# Altium schematic symbol library WE-HCI.SchLib: 126 symbols (part 3 of 3)
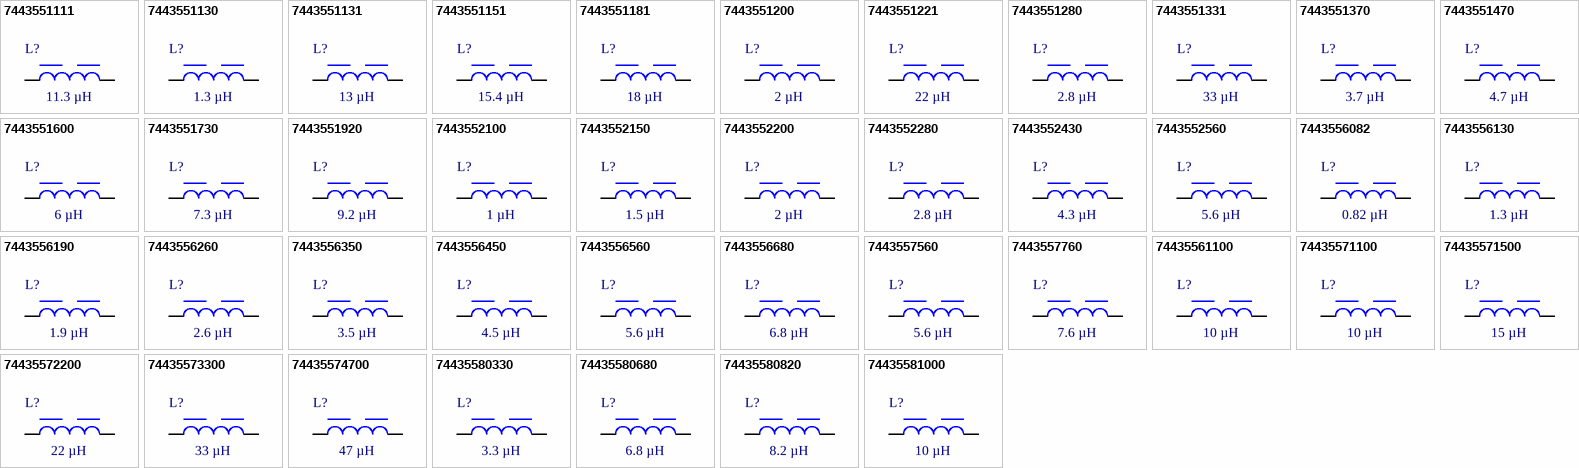
[diagram p5: symbols 7443551111 to 74435581000]

## 74435571100
designator L?, comment 10 µH
WE-HCI SMT Flat Wire High Current Inductor, size 1890, 10 µH, 16.4 A, 6.9 mΩ; Manufacturer Part Number: 74435571100; Manufacturer: Wurth Elektronik; Case/Size Code: 1890; DC Resistance: 6.9 mΩ; Material: MnZn; Performance Rated Current: 16.4 A; Saturation Current: 18.5 A; Self Resonant Frequency: 16 MHz; Category: Power Inductors; Match Code: WE-HCI; ComponentLink1Description: Website Link; ComponentLink1URL: https://www.we-online.com/redexpert/article/74435571100?ad; ComponentLink2Description: Datasheet Link; ComponentLink2URL: https://www.we-online.com/redexpert/spec/74435571100?ad; Mount: Surface Mount; Min Operating Temperature: -40 °C; Max Operating Temperature: 125 °C; Packaging: Tape and Reel; Length: 18.2 mm; Width: 18.2 mm; Height: 8.9 mm; Inductance: 10 µH
footprint WE-HCI_1890
simulation model 1890_74435571100_10u
pins: 1, 2

## 74435571500
designator L?, comment 15 µH
WE-HCI SMT Flat Wire High Current Inductor, size 1890, 15 µH, 14.1 A, 9 mΩ; Manufacturer Part Number: 74435571500; Manufacturer: Wurth Elektronik; Case/Size Code: 1890; DC Resistance: 9 mΩ; Material: MnZn; Performance Rated Current: 14.1 A; Saturation Current: 14 A; Self Resonant Frequency: 14 MHz; Category: Power Inductors; Match Code: WE-HCI; ComponentLink1Description: Website Link; ComponentLink1URL: https://www.we-online.com/redexpert/article/74435571500?ad; ComponentLink2Description: Datasheet Link; ComponentLink2URL: https://www.we-online.com/redexpert/spec/74435571500?ad; Mount: Surface Mount; Min Operating Temperature: -40 °C; Max Operating Temperature: 125 °C; Packaging: Tape and Reel; Length: 18.2 mm; Width: 18.2 mm; Height: 8.9 mm; Inductance: 15 µH
footprint WE-HCI_1890
simulation model 1890_74435571500_15u
pins: 1, 2

## 74435572200
designator L?, comment 22 µH
WE-HCI SMT Flat Wire High Current Inductor, size 1890, 22 µH, 10.9 A, 14.6 mΩ; Manufacturer Part Number: 74435572200; Manufacturer: Wurth Elektronik; Case/Size Code: 1890; DC Resistance: 14.6 mΩ; Material: MnZn; Performance Rated Current: 10.9 A; Saturation Current: 11 A; Self Resonant Frequency: 10.5 MHz; Category: Power Inductors; Match Code: WE-HCI; ComponentLink1Description: Website Link; ComponentLink1URL: https://www.we-online.com/redexpert/article/74435572200?ad; ComponentLink2Description: Datasheet Link; ComponentLink2URL: https://www.we-online.com/redexpert/spec/74435572200?ad; Mount: Surface Mount; Min Operating Temperature: -40 °C; Max Operating Temperature: 125 °C; Packaging: Tape and Reel; Length: 18.2 mm; Width: 18.2 mm; Height: 8.9 mm; Inductance: 22 µH
footprint WE-HCI_1890
simulation model 1890_74435572200_22u
pins: 1, 2

## 74435573300
designator L?, comment 33 µH
WE-HCI SMT Flat Wire High Current Inductor, size 1890, 33 µH, 8.7 A, 21.7 mΩ; Manufacturer Part Number: 74435573300; Manufacturer: Wurth Elektronik; Case/Size Code: 1890; DC Resistance: 21.7 mΩ; Material: MnZn; Performance Rated Current: 8.7 A; Saturation Current: 9 A; Self Resonant Frequency: 9.5 MHz; Category: Power Inductors; Match Code: WE-HCI; ComponentLink1Description: Website Link; ComponentLink1URL: https://www.we-online.com/redexpert/article/74435573300?ad; ComponentLink2Description: Datasheet Link; ComponentLink2URL: https://www.we-online.com/redexpert/spec/74435573300?ad; Mount: Surface Mount; Min Operating Temperature: -40 °C; Max Operating Temperature: 125 °C; Packaging: Tape and Reel; Length: 18.2 mm; Width: 18.2 mm; Height: 8.9 mm; Inductance: 33 µH
footprint WE-HCI_1890
simulation model 1890_74435573300_33u
pins: 1, 2

## 74435574700
designator L?, comment 47 µH
WE-HCI SMT Flat Wire High Current Inductor, size 1890, 47 µH, 6.4 A, 33.5 mΩ; Manufacturer Part Number: 74435574700; Manufacturer: Wurth Elektronik; Case/Size Code: 1890; DC Resistance: 33.5 mΩ; Material: MnZn; Performance Rated Current: 6.4 A; Saturation Current: 7 A; Self Resonant Frequency: 7.5 MHz; Category: Power Inductors; Match Code: WE-HCI; ComponentLink1Description: Website Link; ComponentLink1URL: https://www.we-online.com/redexpert/article/74435574700?ad; ComponentLink2Description: Datasheet Link; ComponentLink2URL: https://www.we-online.com/redexpert/spec/74435574700?ad; Mount: Surface Mount; Min Operating Temperature: -40 °C; Max Operating Temperature: 125 °C; Packaging: Tape and Reel; Length: 18.2 mm; Width: 18.2 mm; Height: 8.9 mm; Inductance: 47 µH
footprint WE-HCI_1890
simulation model 1890_74435574700_47u
pins: 1, 2

## 74435580330
designator L?, comment 3.3 µH
WE-HCI SMT Flat Wire High Current Inductor, size 2212, 3.3 µH, 33.2 A, 1.7 mΩ; Manufacturer Part Number: 74435580330; Manufacturer: Wurth Elektronik; Case/Size Code: 2212; DC Resistance: 1.7 mΩ; Material: MnZn; Performance Rated Current: 33.2 A; Saturation Current: 45 A; Self Resonant Frequency: 26.5 MHz; Category: Power Inductors; Match Code: WE-HCI; ComponentLink1Description: Website Link; ComponentLink1URL: https://www.we-online.com/redexpert/article/74435580330?ad; ComponentLink2Description: Datasheet Link; ComponentLink2URL: https://www.we-online.com/redexpert/spec/74435580330?ad; Mount: Surface Mount; Min Operating Temperature: -40 °C; Max Operating Temperature: 125 °C; Packaging: Tape and Reel; Length: 22 mm; Width: 22.5 mm; Height: 12 mm; Inductance: 3.3 µH
footprint WE-HCI_2212
simulation model 2212_74435580330_3.3u
pins: 1, 2

## 74435580680
designator L?, comment 6.8 µH
WE-HCI SMT Flat Wire High Current Inductor, size 2212, 6.8 µH, 30.5 A, 2.1 mΩ; Manufacturer Part Number: 74435580680; Manufacturer: Wurth Elektronik; Case/Size Code: 2212; DC Resistance: 2.1 mΩ; Material: MnZn; Performance Rated Current: 30.5 A; Saturation Current: 31 A; Self Resonant Frequency: 18 MHz; Category: Power Inductors; Match Code: WE-HCI; ComponentLink1Description: Website Link; ComponentLink1URL: https://www.we-online.com/redexpert/article/74435580680?ad; ComponentLink2Description: Datasheet Link; ComponentLink2URL: https://www.we-online.com/redexpert/spec/74435580680?ad; Mount: Surface Mount; Min Operating Temperature: -40 °C; Max Operating Temperature: 125 °C; Packaging: Tape and Reel; Length: 22 mm; Width: 22.5 mm; Height: 12 mm; Inductance: 6.8 µH
footprint WE-HCI_2212
simulation model 2212_74435580680_6.8u
pins: 1, 2

## 74435580820
designator L?, comment 8.2 µH
WE-HCI SMT Flat Wire High Current Inductor, size 2212, 8.2 µH, 26.1 A, 2.7 mΩ; Manufacturer Part Number: 74435580820; Manufacturer: Wurth Elektronik; Case/Size Code: 2212; DC Resistance: 2.7 mΩ; Material: MnZn; Performance Rated Current: 26.1 A; Saturation Current: 30 A; Self Resonant Frequency: 17 MHz; Category: Power Inductors; Match Code: WE-HCI; ComponentLink1Description: Website Link; ComponentLink1URL: https://www.we-online.com/redexpert/article/74435580820?ad; ComponentLink2Description: Datasheet Link; ComponentLink2URL: https://www.we-online.com/redexpert/spec/74435580820?ad; Mount: Surface Mount; Min Operating Temperature: -40 °C; Max Operating Temperature: 125 °C; Packaging: Tape and Reel; Length: 22 mm; Width: 22.5 mm; Height: 12 mm; Inductance: 8.2 µH
footprint WE-HCI_2212
simulation model 2212_74435580820_8.2u
pins: 1, 2

## 74435581000
designator L?, comment 10 µH
WE-HCI SMT Flat Wire High Current Inductor, size 2212, 10 µH, 22.9 A, 3.4 mΩ; Manufacturer Part Number: 74435581000; Manufacturer: Wurth Elektronik; Case/Size Code: 2212; DC Resistance: 3.4 mΩ; Material: MnZn; Performance Rated Current: 22.9 A; Saturation Current: 26 A; Self Resonant Frequency: 15 MHz; Category: Power Inductors; Match Code: WE-HCI; ComponentLink1Description: Website Link; ComponentLink1URL: https://www.we-online.com/redexpert/article/74435581000?ad; ComponentLink2Description: Datasheet Link; ComponentLink2URL: https://www.we-online.com/redexpert/spec/74435581000?ad; Mount: Surface Mount; Min Operating Temperature: -40 °C; Max Operating Temperature: 125 °C; Packaging: Tape and Reel; Length: 22 mm; Width: 22.5 mm; Height: 12 mm; Inductance: 10 µH
footprint WE-HCI_2212
simulation model 2212_74435581000_10u
pins: 1, 2

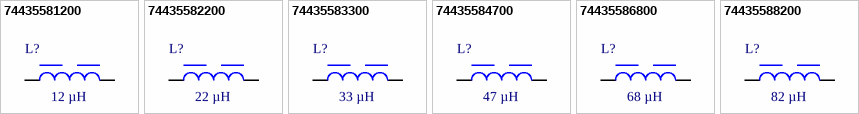
[diagram p3: symbols 74435581200 to 74435588200]

## 74435581200
designator L?, comment 12 µH
WE-HCI SMT Flat Wire High Current Inductor, size 2212, 12 µH, 20.1 A, 4.3 mΩ; Manufacturer Part Number: 74435581200; Manufacturer: Wurth Elektronik; Case/Size Code: 2212; DC Resistance: 4.3 mΩ; Material: MnZn; Performance Rated Current: 20.1 A; Saturation Current: 25 A; Self Resonant Frequency: 13 MHz; Category: Power Inductors; Match Code: WE-HCI; ComponentLink1Description: Website Link; ComponentLink1URL: https://www.we-online.com/redexpert/article/74435581200?ad; ComponentLink2Description: Datasheet Link; ComponentLink2URL: https://www.we-online.com/redexpert/spec/74435581200?ad; Mount: Surface Mount; Min Operating Temperature: -40 °C; Max Operating Temperature: 125 °C; Packaging: Tape and Reel; Length: 22 mm; Width: 22.5 mm; Height: 12 mm; Inductance: 12 µH
footprint WE-HCI_2212
simulation model 2212_74435581200_12u
pins: 1, 2

## 74435582200
designator L?, comment 22 µH
WE-HCI SMT Flat Wire High Current Inductor, size 2212, 22 µH, 15.6 A, 7 mΩ; Manufacturer Part Number: 74435582200; Manufacturer: Wurth Elektronik; Case/Size Code: 2212; DC Resistance: 7 mΩ; Material: MnZn; Performance Rated Current: 15.6 A; Saturation Current: 18 A; Self Resonant Frequency: 8.3 MHz; Category: Power Inductors; Match Code: WE-HCI; ComponentLink1Description: Website Link; ComponentLink1URL: https://www.we-online.com/redexpert/article/74435582200?ad; ComponentLink2Description: Datasheet Link; ComponentLink2URL: https://www.we-online.com/redexpert/spec/74435582200?ad; Mount: Surface Mount; Min Operating Temperature: -40 °C; Max Operating Temperature: 125 °C; Packaging: Tape and Reel; Length: 22 mm; Width: 22.5 mm; Height: 12 mm; Inductance: 22 µH
footprint WE-HCI_2212
simulation model 2212_74435582200_22u
pins: 1, 2

## 74435583300
designator L?, comment 33 µH
WE-HCI SMT Flat Wire High Current Inductor, size 2212, 33 µH, 10.6 A, 13.2 mΩ; Manufacturer Part Number: 74435583300; Manufacturer: Wurth Elektronik; Case/Size Code: 2212; DC Resistance: 13.2 mΩ; Material: MnZn; Performance Rated Current: 10.6 A; Saturation Current: 15 A; Self Resonant Frequency: 6.8 MHz; Category: Power Inductors; Match Code: WE-HCI; ComponentLink1Description: Website Link; ComponentLink1URL: https://www.we-online.com/redexpert/article/74435583300?ad; ComponentLink2Description: Datasheet Link; ComponentLink2URL: https://www.we-online.com/redexpert/spec/74435583300?ad; Mount: Surface Mount; Min Operating Temperature: -40 °C; Max Operating Temperature: 125 °C; Packaging: Tape and Reel; Length: 22 mm; Width: 22.5 mm; Height: 12 mm; Inductance: 33 µH
footprint WE-HCI_2212
simulation model 2212_74435583300_33u
pins: 1, 2

## 74435584700
designator L?, comment 47 µH
WE-HCI SMT Flat Wire High Current Inductor, size 2212, 47 µH, 8.4 A, 19.2 mΩ; Manufacturer Part Number: 74435584700; Manufacturer: Wurth Elektronik; Case/Size Code: 2212; DC Resistance: 19.2 mΩ; Material: MnZn; Performance Rated Current: 8.4 A; Saturation Current: 12 A; Self Resonant Frequency: 6.1 MHz; Category: Power Inductors; Match Code: WE-HCI; ComponentLink1Description: Website Link; ComponentLink1URL: https://www.we-online.com/redexpert/article/74435584700?ad; ComponentLink2Description: Datasheet Link; ComponentLink2URL: https://www.we-online.com/redexpert/spec/74435584700?ad; Mount: Surface Mount; Min Operating Temperature: -40 °C; Max Operating Temperature: 125 °C; Packaging: Tape and Reel; Length: 22 mm; Width: 22.5 mm; Height: 12 mm; Inductance: 47 µH
footprint WE-HCI_2212
simulation model 2212_74435584700_47u
pins: 1, 2

## 74435586800
designator L?, comment 68 µH
WE-HCI SMT Flat Wire High Current Inductor, size 2212, 68 µH, 6.9 A, 27.3 mΩ; Manufacturer Part Number: 74435586800; Manufacturer: Wurth Elektronik; Case/Size Code: 2212; DC Resistance: 27.3 mΩ; Material: MnZn; Performance Rated Current: 6.9 A; Saturation Current: 9.5 A; Self Resonant Frequency: 5 MHz; Category: Power Inductors; Match Code: WE-HCI; ComponentLink1Description: Website Link; ComponentLink1URL: https://www.we-online.com/redexpert/article/74435586800?ad; ComponentLink2Description: Datasheet Link; ComponentLink2URL: https://www.we-online.com/redexpert/spec/74435586800?ad; Mount: Surface Mount; Min Operating Temperature: -40 °C; Max Operating Temperature: 125 °C; Packaging: Tape and Reel; Length: 22 mm; Width: 22.5 mm; Height: 12 mm; Inductance: 68 µH
footprint WE-HCI_2212
simulation model 2212_74435586800_68u
pins: 1, 2

## 74435588200
designator L?, comment 82 µH
WE-HCI SMT Flat Wire High Current Inductor, size 2212, 82 µH, 6.6 A, 30.4 mΩ; Manufacturer Part Number: 74435588200; Manufacturer: Wurth Elektronik; Case/Size Code: 2212; DC Resistance: 30.4 mΩ; Material: MnZn; Performance Rated Current: 6.6 A; Saturation Current: 8.5 A; Self Resonant Frequency: 4.4 MHz; Category: Power Inductors; Match Code: WE-HCI; ComponentLink1Description: Website Link; ComponentLink1URL: https://www.we-online.com/redexpert/article/74435588200?ad; ComponentLink2Description: Datasheet Link; ComponentLink2URL: https://www.we-online.com/redexpert/spec/74435588200?ad; Mount: Surface Mount; Min Operating Temperature: -40 °C; Max Operating Temperature: 125 °C; Packaging: Tape and Reel; Length: 22 mm; Width: 22.5 mm; Height: 12 mm; Inductance: 82 µH
footprint WE-HCI_2212
simulation model 2212_74435588200_82u
pins: 1, 2